# EAGLE library part AVR_MICRO_ICP (library kanflo)
A tiny AVR ICP connector.
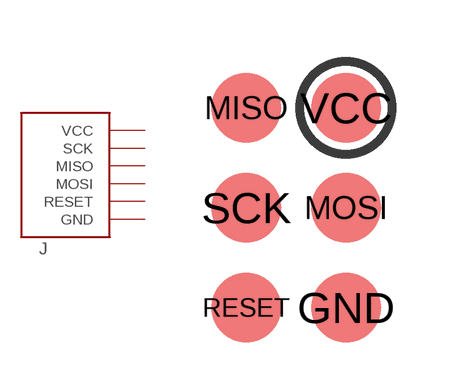
[diagram p9: symbol with the pads of AVR_MICRO_ICP; footprint AVR_MICRO_ICP]

Designator prefix J

## AVR_MICRO_ICP  [AVR_MICRO_ICP]
GND  GND  pwr
MISO  MISO
MOSI  MOSI
RESET  RESET
SCK  SCK
VCC  VCC  pwr

## Footprint AVR_MICRO_ICP (pad centres in mm)
smd 1.75 x 1.75: GND 2.5,-2.5; MISO 0,2.5; MOSI 2.5,0; RESET 0,-2.5; SCK 0,0; VCC 2.5,2.5